# EAGLE library part EXPANSIONPORT-KIM-CONN (library commodore)
expansion port for the KIM-1, connector version
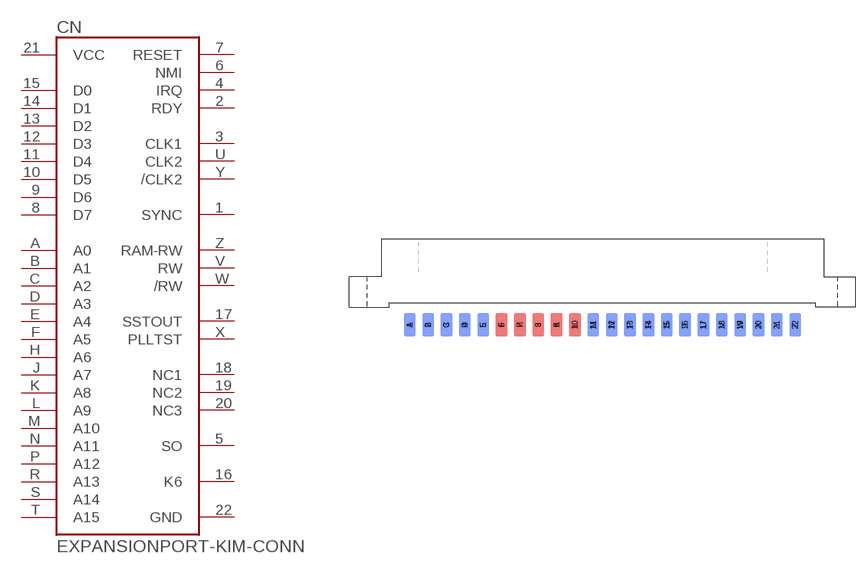
[diagram p36: symbol with the pads of UPS44CONN; footprint UPS44CONN]

Designator prefix CN

## EXPANSIONPORT-KIM-CONN  [UPS44CONN]
1  SYNC  out
2  RDY  pas
3  CLK1  out
4  IRQ  pas
5  SO  pas
6  NMI  pas
7  RESET  pas
8  D7
9  D6
10  D5
11  D4
12  D3
13  D2
14  D1
15  D0
16  K6  out
17  SSTOUT  out
18  NC1  pas
19  NC2  pas
20  NC3  pas
21  VCC  pwr
22  GND  pwr
A  A0  out
B  A1  out
C  A2  out
D  A3  out
E  A4  out
F  A5  out
H  A6  out
J  A7  out
K  A8  out
L  A9  out
M  A10  out
N  A11  out
P  A12  out
R  A13  out
S  A14  out
T  A15  out
U  CLK2  out
V  RW  out
W  /RW  out
X  PLLTST  pas
Y  /CLK2  out
Z  RAM-RW  out

## Footprint UPS44CONN (pad centres in mm)
smd 2.54 x 5.08: 1 -41.579,-1.27; 2 -37.619,-1.27; 3 -33.659,-1.27; 4 -29.699,-1.27; 5 -25.739,-1.27; 6 -21.779,-1.27; 7 -17.819,-1.27; 8 -13.859,-1.27; 9 -9.899,-1.27; 10 -5.939,-1.27; 11 -1.979,-1.27; 12 1.981,-1.27; 13 5.941,-1.27; 14 9.901,-1.27; 15 13.861,-1.27; 16 17.821,-1.27; 17 21.781,-1.27; 18 25.741,-1.27; 19 29.701,-1.27; 20 33.661,-1.27; 21 37.621,-1.27; 22 41.581,-1.27
smd 2.54 x 5.08 bottom: A -41.579,-1.27; B -37.619,-1.27; C -33.659,-1.27; D -29.699,-1.27; E -25.739,-1.27; F -21.779,-1.27; H -17.819,-1.27; J -13.859,-1.27; K -9.899,-1.27; L -5.939,-1.27; M -1.979,-1.27; N 1.981,-1.27; P 5.941,-1.27; R 9.901,-1.27; S 13.861,-1.27; T 17.821,-1.27; U 21.781,-1.27; V 25.741,-1.27; W 29.701,-1.27; X 33.661,-1.27; Y 37.621,-1.27; Z 41.581,-1.27